# Altium footprint library BZX85C5V1(YJ).PcbLib: 1 footprints
Each footprint in its own frame and in the unit in brackets; x right, y up, seen from the top. Pads: shape width x height; smd on the part's side, far side on the other; paste and mask are expansions set on the pad; w line width, h text height; cw(c..) or ccw(c..) is an arc to the next point about the centre after c.
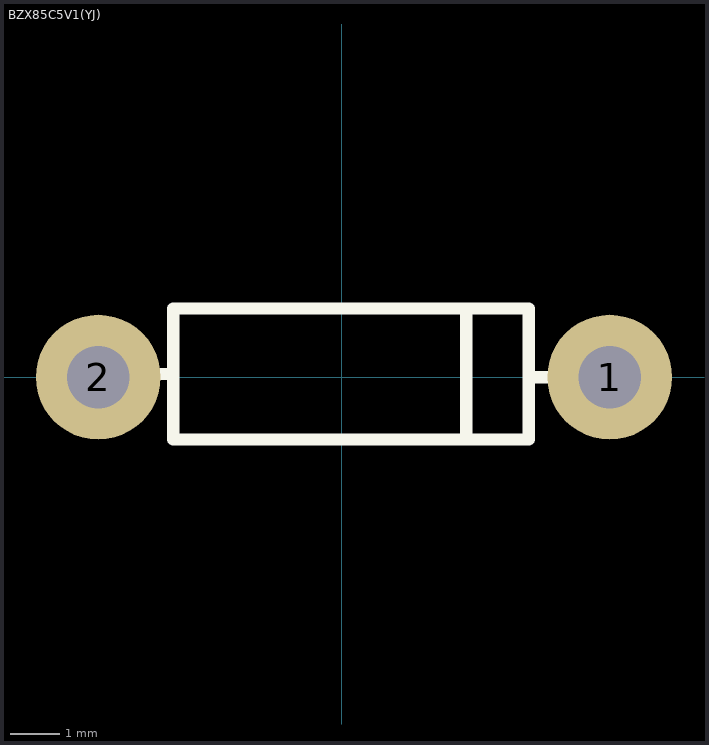
[diagram p0: the footprint, top view; thin cyan lines are the x and y axes]

## BZX85C5V1(YJ) [mil]
pads (2):
  round 100 hole 50: 1(215,0) 2(-195,0)
Top Overlay:
  lines w10: -192.5,2.5 -135,2.5 ; 100,-50 100,55 ; 150,2.5 152.5,0 215,0 ; -135,-50 150,-50 150,55 -135,55 -135,-50
3D body "BZX85C5V1 (YJ).STEP": height 131.97, standoff -116.85, extent -209.11,-50 229.11,53.94